# Altium schematic symbol library TFML-110-01-L-D-RA.SchLib: 1 symbol
Pins are listed as number, name and electrical type; pins without a type are passive.

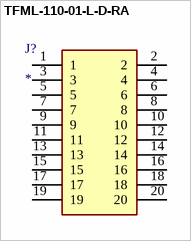
[diagram p0: symbol TFML-110-01-L-D-RA]

## TFML-110-01-L-D-RA
designator J?
Connector; Manufacturer_Name: SAMTEC; Manufacturer_Part_Number: TFML-110-01-L-D-RA; Description: .050 SHROUDED TERMINAL; Datasheet Link: http://suddendocs.samtec.com/catalog_english/tfml.pdf; Mouser Part Number: 200-TFML11001LDRA; Mouser Price/Stock: https://www.mouser.co.uk/ProductDetail/Samtec/TFML-110-01-L-D-RA?qs=%252BZP6%2F%252BtExtAOGvglnfceIw%3D%3D; Arrow Part Number: TFML-110-01-L-D-RA; Arrow Price/Stock: https://www.arrow.com/en/products/tfml-110-01-l-d-ra/samtec?utm_currency=USD&region=nac
footprint TFML-110-01-L-D-RA
pins: 1, 2, 3, 4, 5, 6, 7, 8, 9, 10, 11, 12, 13, 14, 15, 16, 17, 18, 19, 20